# Altium footprint library WePcbLib.PcbLib: 177 footprints (part 12 of 12)
Each footprint in its own frame and in the unit in brackets; x right, y up, seen from the top. Pads: shape width x height; smd on the part's side, far side on the other; paste and mask are expansions set on the pad; w line width, h text height; cw(c..) or ccw(c..) is an arc to the next point about the centre after c.
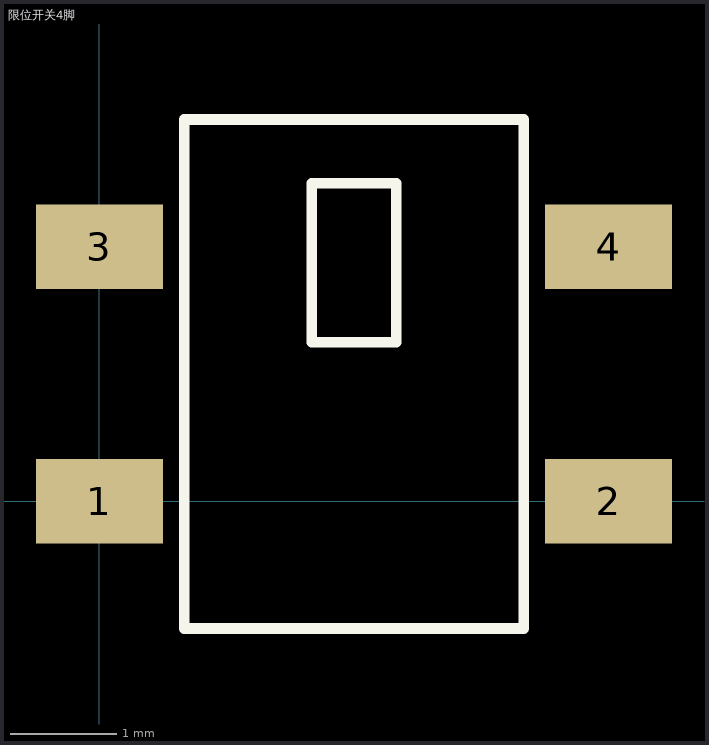
[diagram p11: the footprint, top view; thin cyan lines are the x and y axes]

## 限位开关4脚 [mm]
pads (4):
  rect 1.2x0.8 smd: 1(0,0) 2(4.8,0) 3(0,2.4) 4(4.8,2.4)
Top Overlay:
  lines w0.1: 0.8,-1.2 4,-1.2 4,3.6 0.8,3.6 0.8,-1.2 ; 2,1.5 2.8,1.5 2.8,3 2,3 2,1.5